# EAGLE library part TMS9902 (library ti994a)
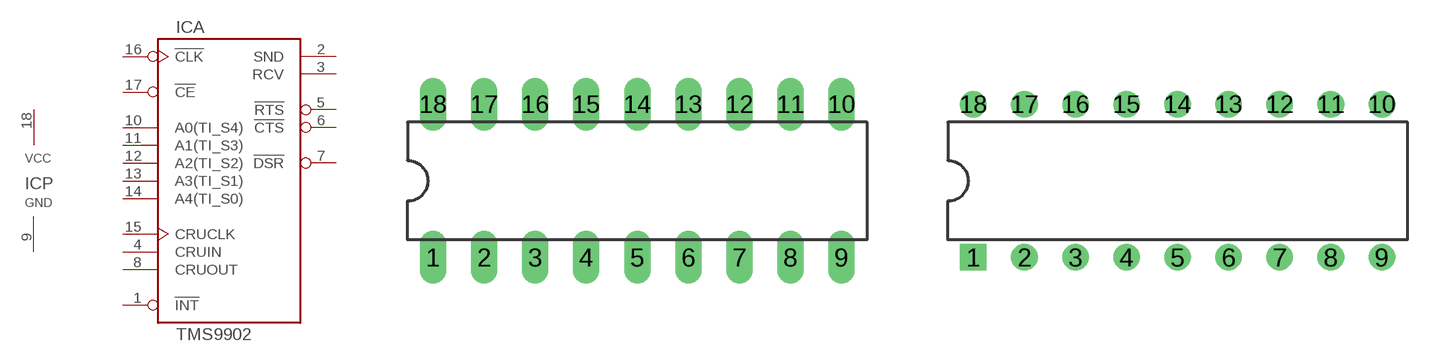
[diagram p3: symbol with the pads of DIL18; footprints DIL18, DIL18_RP]

Designator prefix IC; gates A=TM9902 P=PWR_VCC_GND

## TMS9902  [DIL18]
1  A:!INT  oc
2  A:SND  out
3  A:RCV  in
4  A:CRUIN  in
5  A:!RTS  out
6  A:!CTS  in
7  A:!DSR  in
8  A:CRUOUT  out
9  P:GND  pwr
10  A:A0(TI_S4)  in
11  A:A1(TI_S3)  in
12  A:A2(TI_S2)  in
13  A:A3(TI_S1)  in
14  A:A4(TI_S0)  in
15  A:CRUCLK  in
16  A:!CLK  out
17  A:!CE  in
18  P:VCC  pwr

## TMS9902R  [DIL18_RP]
Pads as for DIL18

## Footprint DIL18 (pad centres in mm)
Dual In Line Package
drill 0.813 long: 1 -10.16,-3.81; 2 -7.62,-3.81; 3 -5.08,-3.81; 4 -2.54,-3.81; 5 0,-3.81; 6 2.54,-3.81; 7 5.08,-3.81; 8 7.62,-3.81; 9 10.16,-3.81; 10 10.16,3.81; 11 7.62,3.81; 12 5.08,3.81; 13 2.54,3.81; 14 0,3.81; 15 -2.54,3.81; 16 -5.08,3.81; 17 -7.62,3.81; 18 -10.16,3.81

## Footprint DIL18_RP (pad centres in mm)
Dual In Line Package
drill 0.813 square: 1 -10.16,-3.81
drill 0.813: 2 -7.62,-3.81; 3 -5.08,-3.81; 4 -2.54,-3.81; 5 0,-3.81; 6 2.54,-3.81; 7 5.08,-3.81; 8 7.62,-3.81; 9 10.16,-3.81; 10 10.16,3.81; 11 7.62,3.81; 12 5.08,3.81; 13 2.54,3.81; 14 0,3.81; 15 -2.54,3.81; 16 -5.08,3.81; 17 -7.62,3.81; 18 -10.16,3.81